# Altium footprint library DKF104N3.PcbLib: 1 footprints
Each footprint in its own frame and in the unit in brackets; x right, y up, seen from the top. Pads: shape width x height; smd on the part's side, far side on the other; paste and mask are expansions set on the pad; w line width, h text height; cw(c..) or ccw(c..) is an arc to the next point about the centre after c.
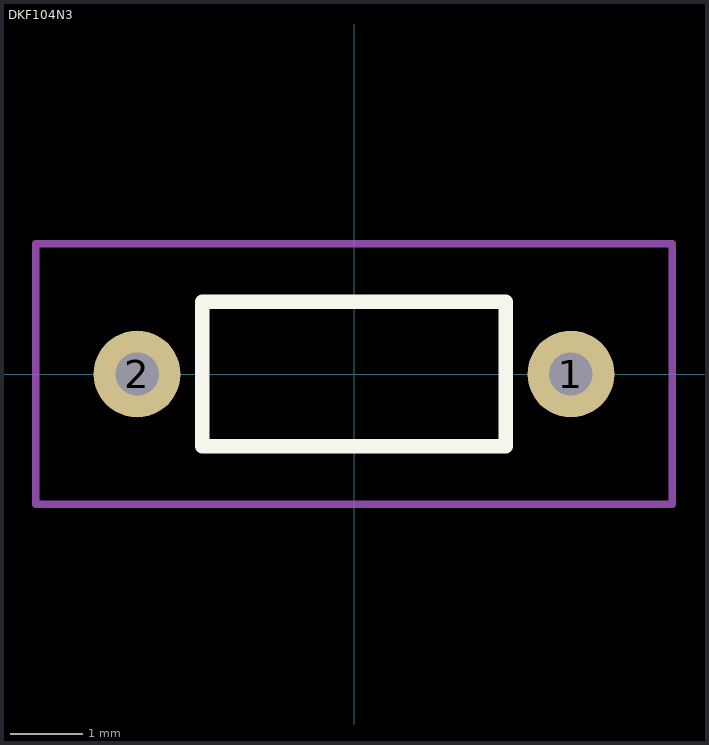
[diagram p0: the footprint, top view; thin cyan lines are the x and y axes]

## DKF104N3 [mm]
pads (2):
  round 1.2 hole 0.6: 1(3,0) 2(-3,0)
Top Overlay:
  lines w0.2: -2.1,-1 -2.1,1 2.1,1 2.1,-1 -2.1,-1
Top Courtyard:
  lines w0.1: -4.4,-1.8 4.4,-1.8 4.4,1.8 -4.4,1.8 -4.4,-0.1 -4.4,-1.8
3D body: height 2.05, standoff 0.05, extent -2.1,-0.996 2.1,0.996